# Altium footprint library Passives.PcbLib: 2 footprints
Each footprint in its own frame and in the unit in brackets; x right, y up, seen from the top. Pads: shape width x height; smd on the part's side, far side on the other; paste and mask are expansions set on the pad; w line width, h text height; cw(c..) or ccw(c..) is an arc to the next point about the centre after c.
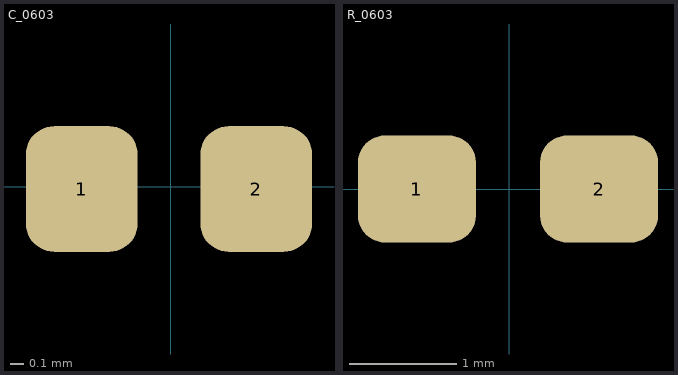
[diagram p0: the footprints below, top view; thin cyan lines are the x and y axes]

## C_0603 [mm]
pads (2):
  rrect50% 0.8x0.9 smd: 1(-0.638,-0.015) 2(0.612,-0.015)

## R_0603 [mm]
pads (2):
  rrect50% 1.1x1 smd: 1(-0.862,0) 2(0.838,0)